# Altium schematic symbol library LSM6DSO.SchLib: 1 symbol
Pins are listed as number, name and electrical type; pins without a type are passive.

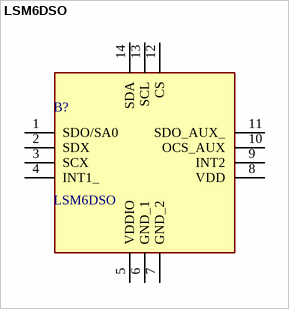
[diagram p0: symbol LSM6DSO]

## LSM6DSO
designator B?
IMUs - Inertial Measurement Units iNEMO inertial module: 3D accelerometer and 3D gyroscope; Manufacturer_Name: STMicroelectronics; Geometry.Height: 0.86mm; Manufacturer_Part_Number: LSM6DSO; Mouser Part Number: N/A; Mouser Price/Stock: https://www.mouser.co.uk/ProductDetail/STMicroelectronics/LSM6DSO?qs=lc2O%252BfHJPVaWmEJZZeO%252B0w%3D%3D; Arrow Part Number: *; Arrow Price/Stock: *; Datasheet Link: https://www.st.com/en/mems-and-sensors/lsm6dso.html
footprint LSM6DSO
pins: 1 SDO/SA0, 2 SDX, 3 SCX, 4 INT1_, 5 VDDIO, 6 GND_1, 7 GND_2, 8 VDD, 9 INT2, 10 OCS_AUX, 11 SDO_AUX_, 12 CS, 13 SCL, 14 SDA